# EAGLE library part BLUETOOTH-PAD (library daGloane)
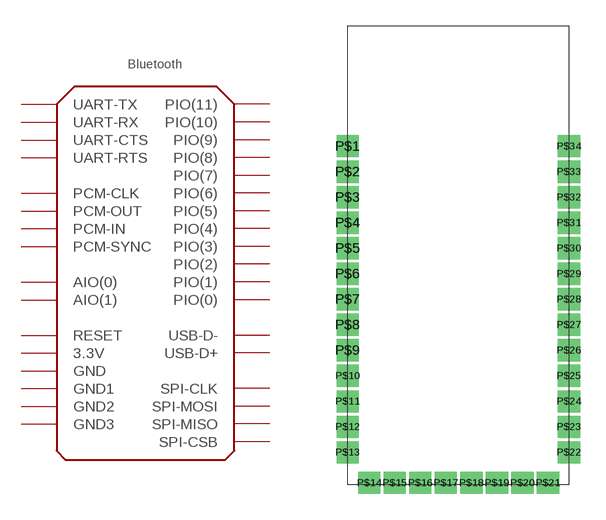
[diagram p6: symbol with the pads of BLUETOOTH-PAD; footprint BLUETOOTH-PAD]

Designator prefix -

## BLUETOOTH-PAD  [BLUETOOTH-PAD]
P$1  UART-TX  out
P$2  UART-RX  in
P$3  UART-CTS  in
P$4  UART-RTS  out
P$5  PCM-CLK
P$6  PCM-OUT  out
P$7  PCM-IN  in
P$8  PCM-SYNC
P$9  AIO(0)
P$10  AIO(1)
P$11  RESET  in
P$12  3.3V  pwr
P$13  GND  pwr
P$14  GND1  pwr
P$15  USB-D-
P$16  SPI-CSB  in
P$17  SPI-MOSI  in
P$18  SPI-MISO  out
P$19  SPI-CLK  in
P$20  USB-D+
P$21  GND2  pwr
P$22  GND3  pwr
P$23  PIO(0)
P$24  PIO(1)
P$25  PIO(2)
P$26  PIO(3)
P$27  PIO(4)
P$28  PIO(5)
P$29  PIO(6)
P$30  PIO(7)
P$31  PIO(8)
P$32  PIO(9)
P$33  PIO(10)
P$34  PIO(11)

## Footprint BLUETOOTH-PAD (pad centres in mm)
drill 0.8 square: P$1 -6.35,5.6; P$2 -6.35,4.1; P$3 -6.35,2.6; P$4 -6.35,1.1; P$5 -6.35,-0.4; P$6 -6.35,-1.9; P$7 -6.35,-3.4; P$8 -6.35,-4.9; P$9 -6.35,-6.4; P$10 -6.35,-7.9; P$11 -6.35,-9.4; P$12 -6.35,-10.9; P$13 -6.35,-12.4; P$14 -5.08,-14.2; P$15 -3.58,-14.2; P$16 -2.08,-14.2; P$17 -0.58,-14.2; P$18 0.92,-14.2; P$19 2.42,-14.2; P$20 3.92,-14.2; P$21 5.42,-14.2; P$22 6.65,-12.4; P$23 6.65,-10.9; P$24 6.65,-9.4; P$25 6.65,-7.9; P$26 6.65,-6.4; P$27 6.65,-4.9; P$28 6.65,-3.4; P$29 6.65,-1.9; P$30 6.65,-0.4; P$31 6.65,1.1; P$32 6.65,2.6; P$33 6.65,4.1; P$34 6.65,5.6